# EAGLE library part CUSTOM_TRAFO_3P_5S (library trafo)
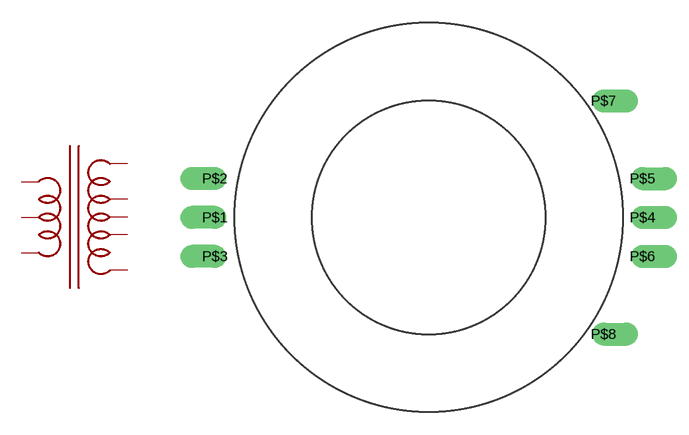
[diagram p0: symbol with the pads of CUSTOM_TRAFO_25MM; footprint CUSTOM_TRAFO_25MM]

Designator prefix L

## CUSTOM_TRAFO_3P_5S  [CUSTOM_TRAFO_25MM]
P$1  P$1
P$2  P$2
P$3  P$3
P$4  P$4
P$5  P$5
P$6  P$6
P$7  P$7
P$8  P$8

## Footprint CUSTOM_TRAFO_25MM (pad centres in mm)
drill 1 offset: P$1 -13.97,0; P$2 -13.97,2.54; P$3 -13.97,-2.54; P$4 13.97,0; P$5 13.97,2.54; P$6 13.97,-2.54; P$7 11.43,7.62; P$8 11.43,-7.62